# Altium footprint library OSCCC340X270X80L90X110N.PcbLib: 1 footprints
Each footprint in its own frame and in the unit in brackets; x right, y up, seen from the top. Pads: shape width x height; smd on the part's side, far side on the other; paste and mask are expansions set on the pad; w line width, h text height; cw(c..) or ccw(c..) is an arc to the next point about the centre after c.
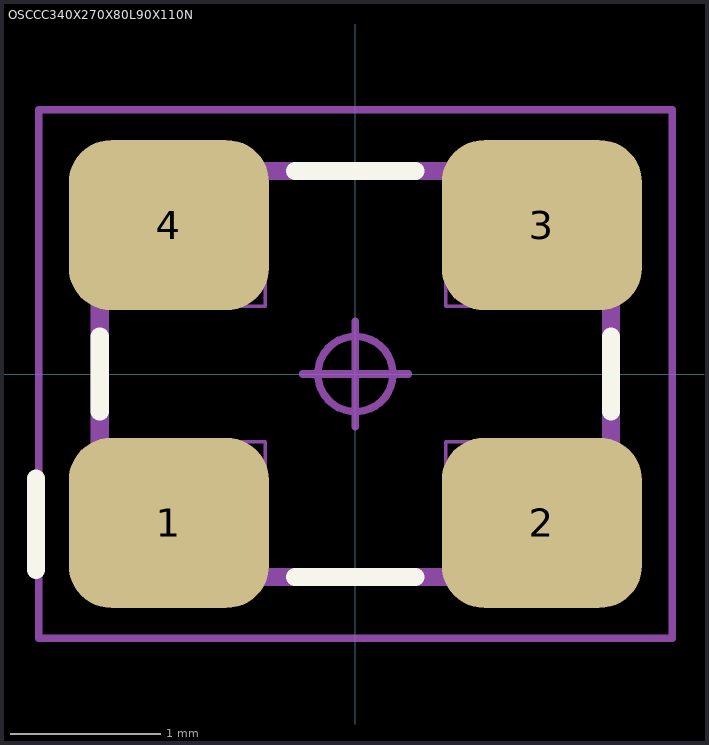
[diagram p0: the footprint, top view; thin cyan lines are the x and y axes]

## OSCCC340X270X80L90X110N [mm] "Oscillator, Corner Concave; 3.40 mm L X 2.70 mm W X 0.80 mm H Body"
height 0.8
pads (4):
  rrect50% 1.332x1.132 smd: 1(-1.24,-0.99) 2(1.24,-0.99) 3(1.24,0.99) 4(-1.24,0.99)
Top Overlay:
  lines w0.12: -2.125,-1.304 -2.125,-0.696 ; -1.7,-0.25 -1.7,0.25 ; -0.4,-1.35 0.4,-1.35 ; -0.4,1.35 0.4,1.35 ; 1.7,-0.25 1.7,0.25
Mechanical 3:
  lines w0.12: -1.7,-1.094 -1.7,1.35 1.7,1.35 1.7,-1.35 -1.444,-1.35 -1.7,-1.094
Mechanical 5:
  lines w0.025: -1.7,-1.35 -0.6,-1.35 -0.6,-0.45 -1.7,-0.45 -1.7,-1.35 ; -1.7,-1.35 -1.7,1.35 ; -1.7,-1.35 1.7,-1.35 ; -1.7,1.35 -1.7,0.45 -0.6,0.45 -0.6,1.35 -1.7,1.35 ; -1.7,1.35 1.7,1.35 ; 1.7,-1.35 1.7,-0.45 0.6,-0.45 0.6,-1.35 1.7,-1.35 ; 1.7,-1.35 1.7,1.35 ; 1.7,1.35 0.6,1.35 0.6,0.45 1.7,0.45 1.7,1.35
Mechanical 7:
  circle w0.05: c0,0 r0.25
  lines w0.05: -0.35,0 0.35,0 ; 0,-0.35 0,0.35 ; -2.106,-1.756 -2.106,1.756 2.106,1.756 2.106,-1.756 -2.106,-1.756
Mechanical 9:
  text "'.Designator'" at -5.69,-0.271 h1.02
3D body: height 17.4, standoff -3.22, extent -2.106,-1.756 2.106,1.756
3D body "OSCCC340X270X80L90X110.STEP": height 0.8, standoff 0, extent -1.7,-1.35 1.7,1.35